# EAGLE library part WE-RJ45_LAN_10/100_BASET_STD_2X_USB (library Wuerth_Elektronik_eiSos_ v6.8)
WE-RJ45 LAN Transformer 10/100 BaseT with 2x USB - RJ45 connector with integrated transformer common mode choke - 350 µH min.OCL with 8 mA bias - Complies with IEEE 802.3 - Extended temperature range from 0°C to +70°C available -- ADSL Modem -- Embedded PC -- LAN network applications -- Hub, Router, Switches
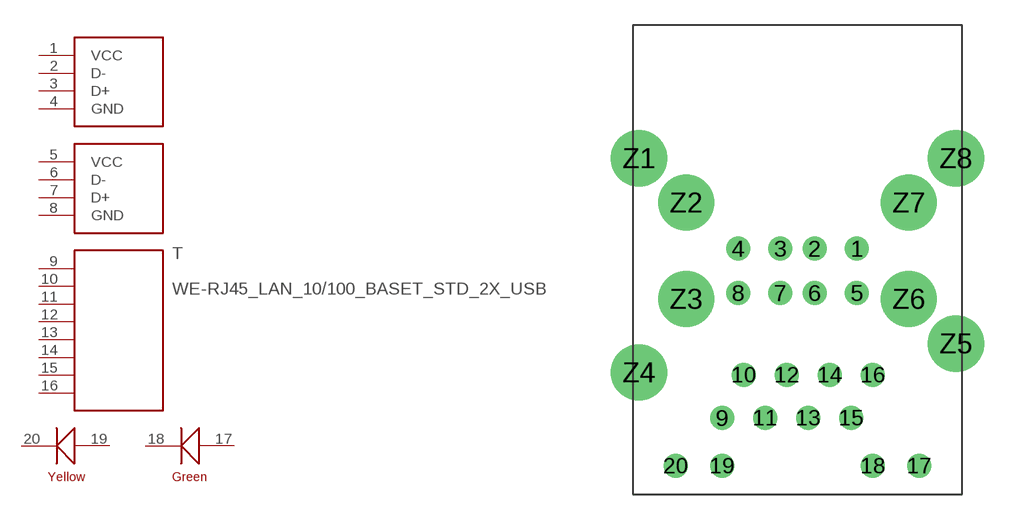
[diagram p108: symbol with the pads of WE-RJ45_LAN_10/100_BASET_7497010211; footprint WE-RJ45_LAN_10/100_BASET_7497010211]

Designator prefix T

## WE-RJ45_LAN_10/100_BASET_STD_2X_USB_7497010211  [WE-RJ45_LAN_10/100_BASET_7497010211]
1  VCC  pas
2  D-  pas
3  D+  pas
4  GND  pas
5  VCC  pas
6  D-  pas
7  D+  pas
8  GND  pas
9  1  pas
10  2  pas
11  3  pas
12  4  pas
13  5  pas
14  6  pas
15  7  pas
16  8  pas
17  10  pas
18  9  pas
19  12  pas
20  11  pas

## Footprint WE-RJ45_LAN_10/100_BASET_7497010211 (pad centres in mm)
WE-RJ45 LAN Transformer 10/100 BaseT with 2 USB
drill 0.9 round: 1 3.5,2.98; 2 1.01,2.98; 3 -1.01,2.98; 4 -3.5,2.98; 5 3.5,0.36; 6 1.01,0.36; 7 -1.01,0.36; 8 -3.5,0.36; 9 -4.45,-7.02; 10 -3.17,-4.48; 11 -1.91,-7.02; 12 -0.63,-4.48; 13 0.63,-7.02; 14 1.91,-4.48; 15 3.17,-7.02; 16 4.45,-4.48; 17 7.19,-9.85; 18 4.45,-9.85; 19 -4.45,-9.85; 20 -7.19,-9.85
drill 2.3 round: Z1 -9.35,8.31; Z2 -6.57,5.69; Z3 -6.57,0; Z4 -9.35,-4.34; Z5 9.35,-2.63; Z6 6.57,0; Z7 6.57,5.69; Z8 9.35,8.31